# Altium footprint library 三极管.PcbLib: 32 footprints (part 2 of 2)
Each footprint in its own frame and in the unit in brackets; x right, y up, seen from the top. Pads: shape width x height; smd on the part's side, far side on the other; paste and mask are expansions set on the pad; w line width, h text height; cw(c..) or ccw(c..) is an arc to the next point about the centre after c.
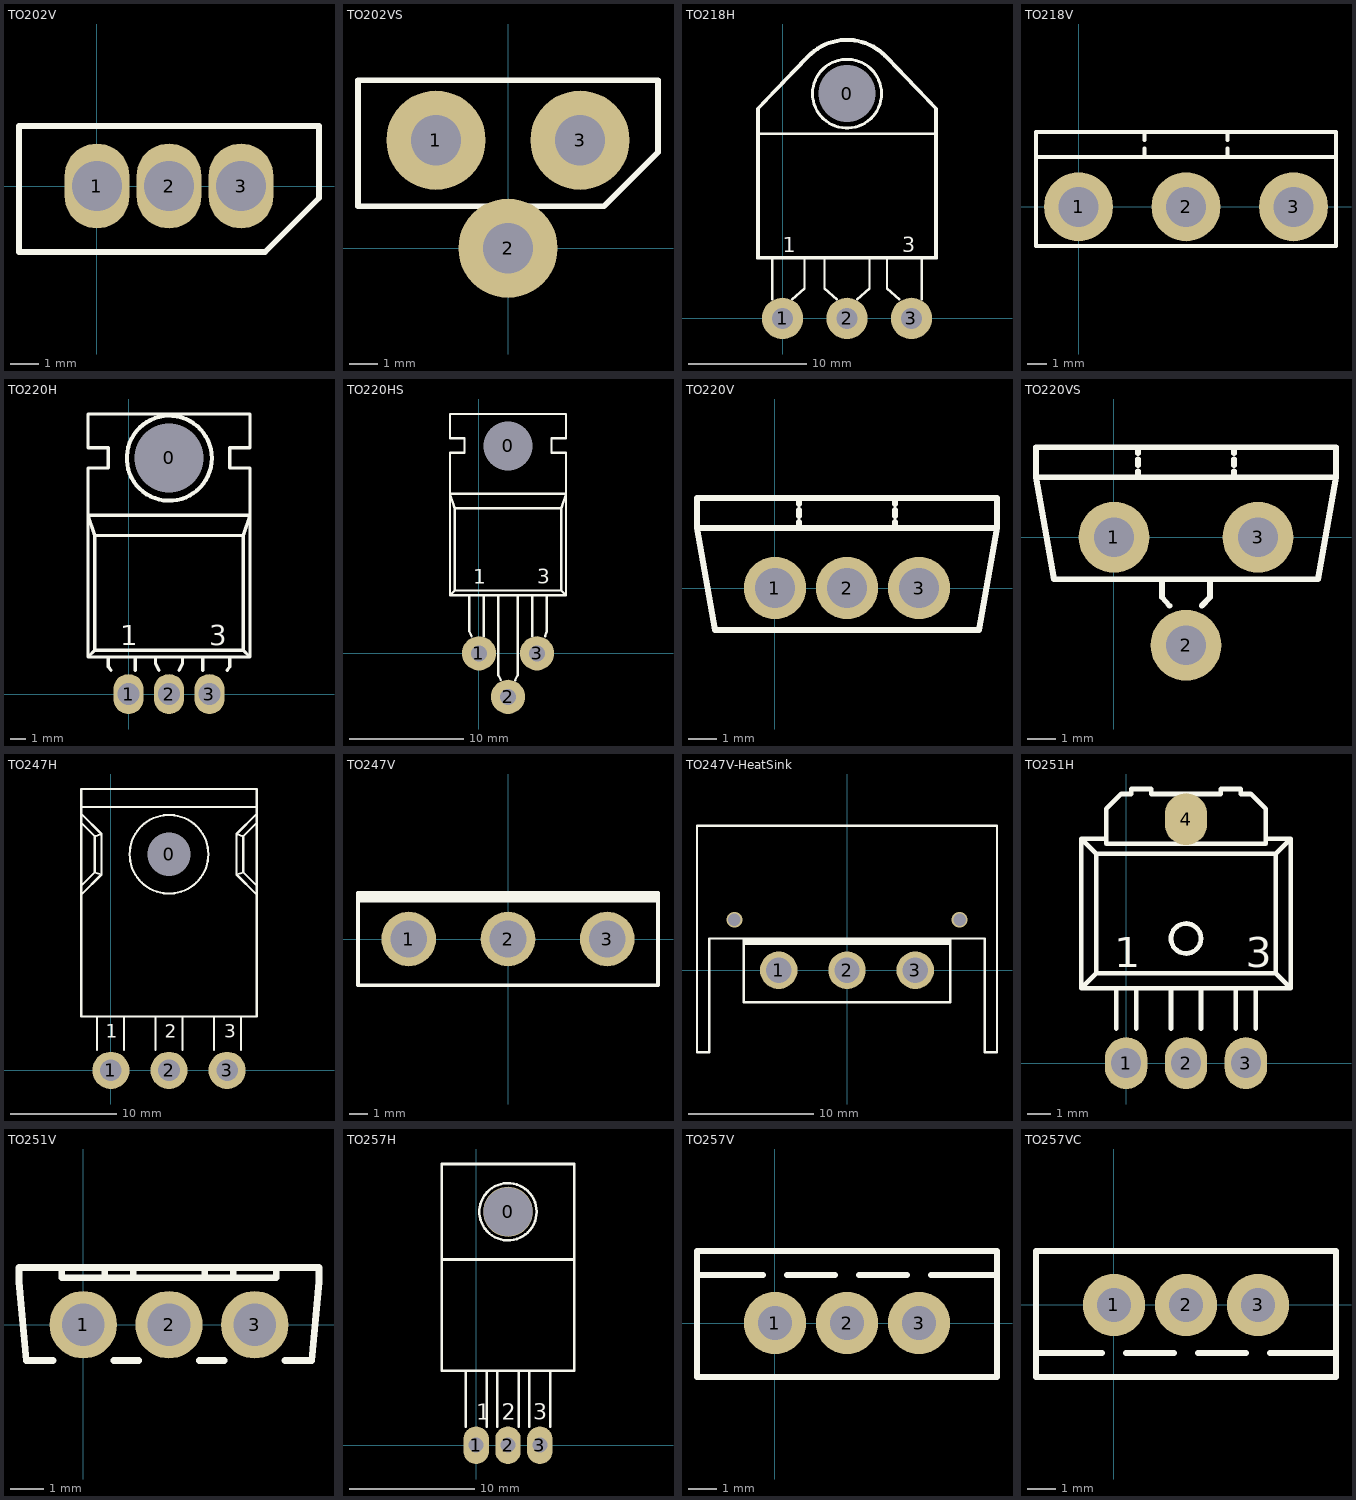
[diagram p1: the footprints below, top view; thin cyan lines are the x and y axes]

## TO202V [mil]
pads (3):
  oval 90x118.11 hole 70: 1(0,0) 2(100,0) 3(200,0)
TopOverlay:
  lines w7.87: -108.33,-91.67 233.33,-91.67 308.33,-16.67 308.33,83.33 -108.33,83.33 -108.33,-91.67

## TO202VS [mm]
pads (3):
  round 3.5 hole 1.778: 1(-2.54,3.81) 2(0,0) 3(2.54,3.81)
TopOverlay:
  lines w0.2: -5.292,1.482 -0.71,1.482 ; 0.71,1.482 3.387,1.482
  lines w0.203: -5.292,1.482 -5.292,5.927 5.292,5.927 5.292,3.387 3.387,1.482

## TO218H [mm]
pads (4):
  round 3.5 hole 4.826: 0(5.461,19.05)
  round 3.5 hole 1.778: 1(0,0) 2(5.461,0) 3(10.922,0)
TopOverlay:
  circle w0.254: c5.461,19.05 r2.921
  lines w0.2: -0.889,1.6 -0.889,5.08 ; 0.804,1.6 1.863,2.54 1.863,5.08 ; 1.863,22.013 -2.159,17.78 -2.159,15.663 ; 2.413,22.352 -2.032,17.78 -2.032,5.207 12.954,5.207 12.954,17.78 8.636,22.225 ; 3.556,5.08 3.556,2.54 4.614,1.6 ; 6.308,1.6 7.366,2.54 7.366,5.08 ; 8.848,5.08 8.848,2.54 9.906,1.6 ; 8.848,22.225 13.081,17.78 13.081,15.663 ; 11.811,1.6 11.811,5.08 ; -2.159,15.663 13.081,15.663 ; -2.159,15.663 -2.159,5.08 13.081,5.08 13.081,15.663
  lines w0.203: 1.859,21.967 cw(c5.461,19.05) 8.851,22.211 ; 2.401,22.332 cw(c5.461,19.05) 8.634,22.223
  text "1" at 0,5.588 h1.27
  text "3" at 10.16,5.588 h1.27

## TO218V [mm]
pads (3):
  round 3.5 hole 2.032: 1(0,0) 2(5.461,0) 3(10.922,0)
TopOverlay:
  lines w0.2: -2.159,2.54 13.081,2.54 ; 3.344,2.54 3.344,2.963 ; 3.344,3.387 3.344,3.81 ; 7.578,2.54 7.578,2.963 ; 7.578,3.387 7.578,3.81 ; -2.159,-2 -2.159,3.81 13.081,3.81 13.081,-2 -2.159,-2

## TO220H [mm]
pads (4):
  oval 1.9x2.5 hole 4.318: 0(2.54,14.817)
  oval 1.9x2.5 hole 1.397: 1(0,0) 2(2.54,0) 3(5.08,0)
TopOverlay:
  circle w0.254: c2.557,14.796 r2.667
  lines w0.2: -1.27,1.693 -1.27,2.328 ; -1.222,1.661 -1.107,1.5 ; 0.423,1.5 0.423,2.328 ; 1.693,2.328 1.693,1.905 1.905,1.5 ; 3.175,1.5 3.387,1.905 3.387,2.328 ; 4.657,1.5 4.657,2.328 ; 6.195,1.5 6.358,1.717 ; 6.35,1.693 6.35,2.328 ; -2.54,2.328 -2.54,14.182 -1.27,14.182 -1.27,15.452 -2.54,15.452 -2.54,17.568 7.62,17.568 7.62,15.452 6.35,15.452 6.35,14.182 7.62,14.182 7.62,2.328 ; -2.54,2.328 7.62,2.328 ; -2.54,2.328 -2.117,2.752 ; -2.117,2.752 -2.117,9.948 ; -2.117,2.752 7.197,2.752 ; -2.117,9.948 -2.54,11.218 7.62,11.218 7.197,9.948 ; -2.117,9.948 7.197,9.948 ; 7.197,2.752 7.197,9.948 ; 7.197,2.752 7.62,2.328
  text "3" at 5.08,3.048 h1.27
  text "1" at -0.508,3.048 h1.27

## TO220HS [mm]
pads (4):
  round 3 hole 4.318: 0(2.54,18.161)
  round 3 hole 1.397: 1(0,0) 2(2.54,-3.81) 3(5.08,0)
TopOverlay:
  lines w0.2: -0.847,5.08 -0.847,1.905 -0.655,1.5 ; 0.423,1.5 0.423,5.08 ; 1.693,5.08 1.693,-1.905 1.917,-2.34 ; 3.163,-2.344 3.387,-1.905 3.387,5.08 ; 4.657,1.5 4.657,5.08 ; 5.791,1.5 5.927,1.905 5.927,5.08 ; -2.54,5.08 -2.54,17.568 -1.27,17.568 -1.27,18.838 -2.54,18.838 -2.54,20.955 7.62,20.955 7.62,18.838 6.35,18.838 6.35,17.568 7.62,17.568 7.62,15.028 7.62,5.08 ; -2.54,5.08 7.62,5.08 ; -2.54,5.08 -2.117,5.503 ; -2.117,5.503 -2.117,12.7 ; -2.117,5.503 7.197,5.503 ; -2.117,12.7 -2.54,13.97 7.62,13.97 7.197,12.7 ; -2.117,12.7 7.197,12.7 ; 7.197,5.503 7.62,5.08 ; 7.197,5.503 7.197,12.7
  text "3" at 5.08,6.096 h1.27
  text "1" at -0.508,6.096 h1.27

## TO220V [mm]
pads (3):
  round 2.2 hole 1.397: 1(0,0) 2(2.54,0) 3(5.08,0)
TopOverlay:
  lines w0.2: 0.847,2.117 0.847,2.328 ; 0.847,2.54 0.847,2.752 ; 0.847,2.963 0.847,3.175 ; 4.233,2.117 4.233,2.328 ; 4.233,2.54 4.233,2.752 ; 4.233,2.963 4.233,3.175 ; -2.752,2.117 -2.752,3.175 7.832,3.175 7.832,2.117 ; -2.752,2.117 -2.117,-1.482 7.197,-1.482 7.832,2.117 ; -2.752,2.117 7.832,2.117

## TO220VS [mm]
pads (3):
  round 2.5 hole 1.397: 1(0,0) 2(2.54,-3.81) 3(5.08,0)
TopOverlay:
  lines w0.2: 0.847,2.117 0.847,2.328 ; 0.847,2.54 0.847,2.752 ; 0.847,2.963 0.847,3.175 ; 1.693,-1.482 1.693,-2.117 1.957,-2.416 ; 3.099,-2.416 3.387,-2.117 3.387,-1.482 ; 4.233,2.117 4.233,2.328 ; 4.233,2.54 4.233,2.752 ; 4.233,2.963 4.233,3.175 ; -2.752,2.117 7.832,2.117 ; -2.752,2.117 -2.117,-1.482 7.197,-1.482 7.832,2.117 ; -2.752,2.117 -2.752,3.175 7.832,3.175 7.832,2.117

## TO247H [mm]
pads (4):
  round 3.5 hole 4.064: 0(5.461,20.32)
  round 3.5 hole 2.032: 1(0,0) 2(5.461,0) 3(10.922,0)
TopOverlay:
  circle w0.2: c5.461,20.32 r3.698
  lines w0.2: -2.794,16.51 -0.889,18.415 ; -2.794,17.357 -1.524,18.627 ; -2.794,23.283 -1.524,22.013 ; -2.794,24.13 -0.889,22.225 ; -2.794,24.765 13.716,24.765 ; -1.312,1.905 -1.312,5.08 ; 1.228,1.905 1.228,5.08 ; 4.191,1.905 4.191,5.08 ; 6.731,1.905 6.731,5.08 ; 9.694,1.905 9.694,5.08 ; 12.234,1.905 12.234,5.08 ; 13.716,16.51 11.811,18.415 ; 13.716,17.357 12.446,18.627 ; 13.716,23.283 12.446,22.013 ; 13.716,24.13 11.811,22.225 ; -1.524,18.627 -0.889,18.415 ; -1.524,18.627 -1.524,22.013 ; -1.524,22.013 -0.889,22.225 ; -0.889,18.415 -0.889,22.225 ; 11.811,18.415 12.446,18.627 ; 11.811,18.415 11.811,22.225 ; 11.811,22.225 12.446,22.013 ; 12.446,18.627 12.446,22.013 ; -2.794,5.08 -2.794,26.458 13.716,26.458 13.716,5.08 -2.794,5.08
  text "3" at 10.668,3.048 h1.27
  text "2" at 5.08,3.048 h1.27
  text "1" at -0.508,3.048 h1.27

## TO247V [mm]
pads (3):
  round 3 hole 2.032: 1(-5.461,0) 2(0,0) 3(5.461,0)
TopOverlay:
  lines w0.2: -8.255,2.117 8.255,2.117 ; -8.255,2.201 8.255,2.201 ; -8.255,2.328 8.255,2.328 ; -8.255,2.413 8.255,2.413 ; -8.255,-2.54 8.255,-2.54 8.255,2.54 -8.255,2.54 -8.255,-2.54

## TO247V-HeatSink [mm]
height 25
pads (3):
  round 3 hole 2.032: 1(-5.461,0) 2(0,0) 3(5.461,0)
via -9,4.04 diameter 1.27 hole 1
via 9,4.04 diameter 1.27 hole 1
TopOverlay:
  lines w0.2: -8.255,2.117 8.255,2.117 ; -8.255,2.201 8.255,2.201 ; -8.255,2.328 8.255,2.328 ; -8.255,2.413 8.255,2.413 ; -8.255,2.54 8.255,2.54 ; -8.255,2.54 -8.255,-2.54 8.255,-2.54 8.255,2.54 ; -8.255,2.54 -11,2.54 -11,-6.54 -12,-6.54 -12,11.54 12,11.54 12,-6.54 11,-6.54 11,2.54 8.255,2.54

## TO251H [mm]
pads (4):
  oval 1.8x2.2 hole 1.27: 1(0,0) 2(2.54,0) 3(5.08,0)
  oval 1.8x2.2 smd: 4(2.54,10.363)
TopOverlay:
  circle w0.203: c2.54,5.292 r0.635
  lines w0.2: -0.847,9.525 -1.905,9.525 ; -0.423,1.47 -0.423,3.175 ; 0.423,1.47 0.423,3.175 ; 1.905,1.47 1.905,3.175 ; 3.175,1.47 3.175,3.175 ; 4.657,1.47 4.657,3.175 ; 5.503,1.47 5.503,3.175 ; 5.927,9.525 6.985,9.525 ; -1.905,3.175 -1.27,3.81 ; -1.905,3.175 -1.905,9.525 ; -1.905,3.175 6.985,3.175 ; -1.905,9.525 -1.27,8.89 ; -1.27,3.81 6.35,3.81 ; -1.27,3.81 -1.27,8.89 ; -1.27,8.89 6.35,8.89 ; 6.35,3.81 6.985,3.175 ; 6.35,3.81 6.35,8.89 ; 6.35,8.89 6.985,9.525 ; 6.985,3.175 6.985,9.525 ; -0.847,9.313 5.927,9.313 5.927,10.795 5.292,11.43 4.868,11.43 4.868,11.642 4.022,11.642 4.022,11.43 1.058,11.43 1.058,11.642 0.212,11.642 0.212,11.43 -0.212,11.43 -0.847,10.795 -0.847,9.313
  text "3" at 5.08,4.064 h1.27
  text "1" at -0.508,4.064 h1.27

## TO251V [mm]
pads (3):
  round 2 hole 1.27: 1(0,0) 2(2.54,0) 3(5.08,0)
TopOverlay:
  lines w0.2: -0.9,-1.058 -1.693,-1.058 -1.905,1.27 -1.905,1.482 -1.905,1.693 6.985,1.693 6.985,1.27 6.773,-1.058 5.98,-1.058 ; -0.635,1.693 -0.635,1.389 5.715,1.389 5.715,1.693 ; 0.635,1.389 0.635,1.693 ; 0.9,-1.058 1.64,-1.058 ; 1.482,1.389 1.482,1.693 ; 3.44,-1.058 4.18,-1.058 ; 3.598,1.389 3.598,1.693 ; 4.445,1.389 4.445,1.693

## TO257H [mm]
pads (4):
  oval 3.937x4 hole 3.9: 0(2.54,18.627)
  oval 2.032x3 hole 1.2: 1(0,0) 2(2.54,0) 3(5.08,0)
TopOverlay:
  circle w0.203: c2.54,18.627 r2.286
  lines w0.2: -2.752,14.817 7.832,14.817 ; -0.847,1.482 -0.847,5.927 ; 0.847,1.482 0.847,5.927 ; 1.693,1.482 1.693,5.927 ; 3.387,1.482 3.387,5.927 ; 4.233,1.482 4.233,5.927 ; 5.927,1.482 5.927,5.927 ; -2.752,5.927 -2.752,22.437 7.832,22.437 7.832,5.927 -2.752,5.927
  text "3" at 4.572,2.032 h1.27
  text "2" at 2.032,2.032 h1.27
  text "1" at 0,2.032 h1.27

## TO257V [mm]
pads (3):
  round 2.2 hole 1.2: 1(0,0) 2(2.54,0) 3(5.08,0)
TopOverlay:
  lines w0.2: -2.752,1.693 -0.423,1.693 ; 0.423,1.693 2.117,1.693 ; 2.963,1.693 4.657,1.693 ; 5.503,1.693 7.832,1.693 ; -2.752,-1.905 7.832,-1.905 7.832,2.54 -2.752,2.54 -2.752,-1.905

## TO257VC [mm]
pads (3):
  round 2.2 hole 1.2: 1(0,0) 2(2.54,0) 3(5.08,0)
TopOverlay:
  lines w0.2: -2.752,-1.693 -0.423,-1.693 ; 0.423,-1.693 2.117,-1.693 ; 2.963,-1.693 4.657,-1.693 ; 5.503,-1.693 7.832,-1.693 ; -2.752,-2.54 -2.752,1.905 7.832,1.905 7.832,-2.54 -2.752,-2.54